# EAGLE library part AD5262 (library RalimTek)
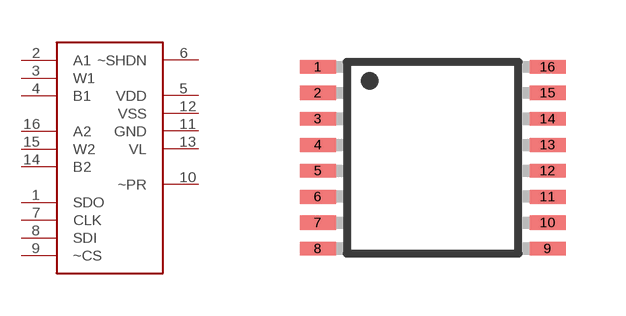
[diagram p17: symbol with the pads of TSSOP16; footprint TSSOP16]

Designator prefix -

## AD5262  [TSSOP16]
1  SDO
2  A1
3  W1
4  B1
5  VDD
6  ~SHDN
7  CLK
8  SDI
9  ~CS
10  ~PR
11  GND
12  VSS
13  VL
14  B2
15  W2
16  A2

## Footprint TSSOP16 (pad centres in mm)
16-Lead Thin Shrink Small Outline Package [TSSOP] (RU-16) Source: 8x ADG1408_1409.pdf
smd 0.9 x 0.35: 1 -2.875,2.275; 2 -2.875,1.625; 3 -2.875,0.975; 4 -2.875,0.325; 5 -2.875,-0.325; 6 -2.875,-0.975; 7 -2.875,-1.625; 8 -2.875,-2.275; 9 2.875,-2.275; 10 2.875,-1.625; 11 2.875,-0.975; 12 2.875,-0.325; 13 2.875,0.325; 14 2.875,0.975; 15 2.875,1.625; 16 2.875,2.275